# Altium schematic symbol library Electronic_Load.SchLib: 25 symbols
Pins are listed as number, name and electrical type; pins without a type are passive.

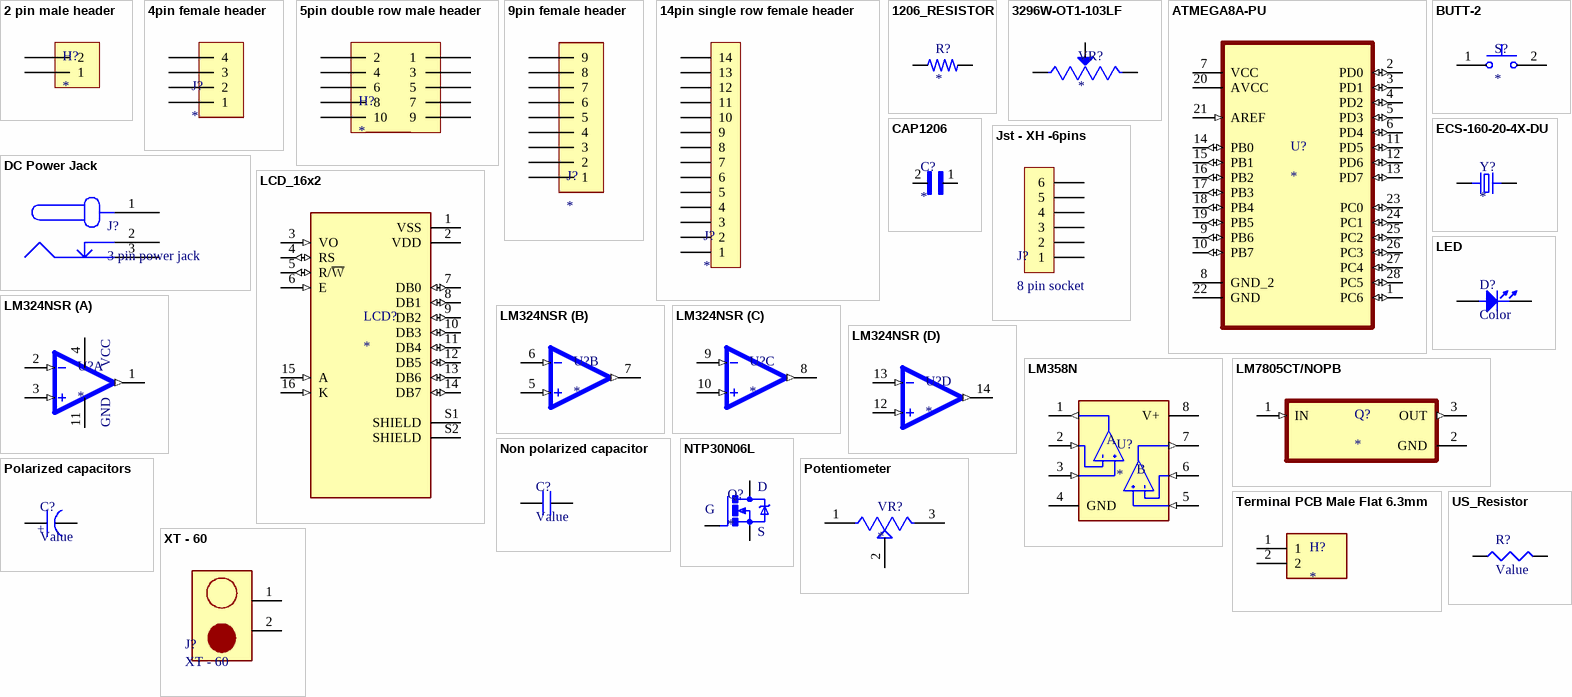
[diagram p0: symbols 2 pin male header to XT - 60]

## 2 pin male header
designator H?
footprint 2pin male header
pins: 1, 2

## 4pin female header
designator J?
footprint 4pin single row female header
pins: 1, 2, 3, 4

## 5pin double row male header
designator H?
footprint 5pin double row male header
pins: 1, 2, 3, 4, 5, 6, 7, 8, 9, 10

## 9pin female header
designator J?
footprint 9pin single row female header
pins: 1, 2, 3, 4, 5, 6, 7, 8, 9

## 14pin single row female header
designator J?
14 MODII HDR SRST B/A .100CL; MP: 1-102976-4; Package: None; Price: None; Value: *; Availability: Unavailable
footprint 14pin single row female header
pins: 1, 2, 3, 4, 5, 6, 7, 8, 9, 10, 11, 12, 13, 14

## 1206_RESISTOR
designator R?
RES 0.24 OHM 1% 1/4W 1206; Resistance: 24; Power_Rating: .25 W; MF: TE Connectivity; MP: 2-1879462-9; Package: 1206; Value: *; Price: None; Availability: Unavailable; SnapEDA_Link: https://www.snapeda.com/parts/2-1879462-9/TE%20Connectivity/view-part/2213899/?ref=snap; EU_RoHS_Compliance: Compliant with Exemptions; Tolerance: 1%
footprint resistor_through hole
pins: 1, 2

## 3296W-OT1-103LF
designator VR?
Trimmer Resistors - Through Hole 3/8 SQ CERMET 10K SEALED TRIM POT; MF: Bourns; MP: 3296W-OT1-103LF; SnapEDA_Link: https://www.snapeda.com/parts/3296W-OT1-103LF/Bourns/view-part/?ref=snap; Package: None; Value: *; Check_prices: https://www.snapeda.com/parts/3296W-OT1-103LF/Bourns/view-part/?ref=eda
footprint TRIM_3296W-OT1-103LF
pins: 1 CCW, 2 WIPER, 3 CW

## ATMEGA8A-PU
designator U?
AVR AVRÂ® ATmega Microcontroller IC 8-Bit 16MHz 8KB (4K x 16) FLASH 28-PDIP; MP: ATMEGA8A-PU; MF: Microchip; Check_prices: https://www.snapeda.com/parts/ATMEGA8A-PU/Microchip/view-part/?ref=eda; Value: *; Availability: Unavailable; Price: None; Package: PDIP-28; SnapEDA_Link: https://www.snapeda.com/parts/ATMEGA8A-PU/Microchip/view-part/?ref=snap
footprint ATMEGA8A-PU
pins: 1 PC6 (io), 2 PD0 (io), 3 PD1 (io), 4 PD2 (io), 5 PD3 (io), 6 PD4 (io), 7 VCC (power), 8 GND_2, 9 PB6 (io), 10 PB7 (io), 11 PD5 (io), 12 PD6 (io), 13 PD7 (io), 14 PB0 (io), 15 PB1 (io), 16 PB2 (io), 17 PB3 (io), 18 PB4 (io), 19 PB5 (io), 20 AVCC (power), 21 AREF (in), 22 GND, 23 PC0 (io), 24 PC1 (io), 25 PC2 (io), 26 PC3 (io), 27 PC4 (io), 28 PC5 (io)

## BUTT-2
designator S?
Tactile Switches MINI PUSH BUTTON SWITCH 2-PIN QTY. 4; MF: Gravitech; MP: BUTT-2; Purchase-URL: https://pricing.snapeda.com/search/part/BUTT-2/?ref=eda; Package: None; Value: *; Check_prices: https://www.snapeda.com/parts/BUTT-2/Gravitech/view-part/?ref=eda; SnapEDA_Link: https://www.snapeda.com/parts/BUTT-2/Gravitech/view-part/?ref=snap; Availability: In Stock; Price: None
footprint SW_BUTT-2
pins: 1, 2

## CAP1206
designator C?
ceramic cap; MP: GRM31CC80E157ME11K; MF: Murata; Price: None; Availability: In Stock; Package: 1206 Murata; Value: *; SnapEDA_Link: https://www.snapeda.com/parts/GRM31CC80E157ME11K/Murata/view-part/?ref=snap; Purchase-URL: https://pricing.snapeda.com/search/part/GRM31CC80E157ME11K/?ref=eda; Check_prices: https://www.snapeda.com/parts/GRM31CC80E157ME11K/Murata/view-part/?ref=eda
footprint Cap_nonpolarized_2.5mm
pins: 1, 2

## DC Power Jack
designator J?, comment 3 pin power jack
DC Power Jack / generic 3 pins connector
footprint DC_POWER_JACK_2.7MM
pins: 1, 2, 3

## ECS-160-20-4X-DU
designator Y?
16MHz Â±30ppm Crystal 20pF 40 Ohms HC-49/US; MP: ECS-160-20-4X-DU; MF: ECS Inc.; Digi-Key_Part_Number: XC1925-ND; Digi-Key_Purchase_URL: https://www.digikey.com/product-detail/en/ecs-inc/ECS-160-20-4X-DU/XC1925-ND/2781930?utm_source=snapeda&utm_medium=aggregator&utm_campaign=symbol; Package: HC-49/US ECS International; Value: *; SnapEDA_Link: https://www.snapeda.com/parts/ECS-160-20-4X-DU/ECS%20Inc./view-part/2154532/?ref=snap
footprint XTAL_ECS-160-20-4X-DU
pins: 1, 2

## Jst - XH -6pins
designator J?, comment 8 pin socket
footprint Jst - XH - 6pins
pins: 1, 2, 3, 4, 5, 6

## LCD_16x2
designator LCD?
Display: LCD; alphanumeric; STN Negative; 16x2; blue; LED; PIN: 16; MF: Raystar; MP: RC1602B-BIW-CSV; Value: *; SnapEDA_Link: https://www.snapeda.com/parts/RC1602B-BIW-CSV/Raystar/view-part/?ref=snap; Availability: Not in stock; Price: None; Package: None; Check_prices: https://www.snapeda.com/parts/RC1602B-BIW-CSV/Raystar/view-part/?ref=eda
footprint LCD_16x2
pins: 1 VSS (power), 2 VDD (power), 3 VO (in), 4 RS (io), 5 R/~{W} (io), 6 E (in), 7 DB0 (io), 8 DB1 (io), 9 DB2 (io), 10 DB3 (io), 11 DB4 (io), 12 DB5 (io), 13 DB6 (io), 14 DB7 (io), 15 A (in), 16 K (in), S1 SHIELD, S2 SHIELD

## LED
designator D?, comment Color
footprint LED_TH_2.54mm
pins: 1 Positive, 2 Negative

## LM324NSR
designator U?
4-Channel industry standard operational amplifier 14-SO 0 to 70; MP: LM324NSR; MF: Texas Instruments; SnapEDA_Link: https://www.snapeda.com/parts/LM324NSR/Texas%20Instruments/view-part/1807/?ref=snap; Availability: Warning; Package: SOP-14 Texas Instruments; Price: None; Check_prices: https://www.snapeda.com/parts/LM324NSR/Texas%20Instruments/view-part/1807/?ref=eda; Value: *; Purchase-URL: https://pricing.snapeda.com/search/part/LM324NSR/?ref=eda
footprint DIP794W45P254L1969H508Q14
part A pins: 1 1OUT (out), 2 1IN- (in), 3 1IN+ (in), 4 VCC (power), 11 GND (power)
part B pins: 5 2IN+ (in), 6 2IN- (in), 7 2OUT (out)
part C pins: 8 3OUT (out), 9 3IN- (in), 10 3IN+ (in)
part D pins: 12 4IN+ (in), 13 4IN- (in), 14 4OUT (out)

## LM358N
designator U?
Dual, 32-V, 1-MHz op amp; MF: Texas Instruments; MP: LM358N/NOPB; SnapEDA_Link: https://www.snapeda.com/parts/LM358N/NOPB/Texas+Instruments/view-part/?ref=snap; Package: PDIP-8 Texas; Value: *; Check_prices: https://www.snapeda.com/parts/LM358N/NOPB/Texas+Instruments/view-part/?ref=eda
footprint LM358N
pins: 1 OUTA (out), 2 -INA (in), 3 +INA (in), 4 GND (power), 5 +INB (in), 6 -INB (in), 7 OUTB (out), 8 V+ (power)
text: A; B

## LM7805CT/NOPB
designator Q?
MP: LM7805CT/NOPB; Price: None; Availability: Unavailable; Value: *; Package: None
footprint TO254P1054X470X1955-3
pins: 1 IN (in), 2 GND (power), 3 OUT (out)

## Non polarized capacitor
designator C?, comment Value
Generial Non polarized capacitor for through hole or SMD capacitors
footprint Cap_nonpolarized_2.5mm
pins: 1, 2

## NTP30N06L
designator Q?
N-Channel 100 V 9.2A (Tc) 3.7W (Ta), 60W (Tc) Surface Mount D2PAK; MP: IRF520; MF: Vishay Siliconix; Check_prices: https://www.snapeda.com/parts/IRF520/Vishay+Siliconix/view-part/?ref=eda; Value: *; Availability: In Stock; Price: None; Package: TO-220-3 Vishay; SnapEDA_Link: https://www.snapeda.com/parts/IRF520/Vishay+Siliconix/view-part/?ref=snap; Purchase-URL: https://pricing.snapeda.com/search/part/IRF520/?ref=eda
footprint NTP30N06L
pins: 1 G, 2 D, 3 S

## Polarized capacitors
designator C?, comment Value
Generial polarized capacitor for through hole or SMD capacitors
footprint CP_Radial_D4.0mm_P1.50mm
pins: 1 Positive, 2 Negative
text: +

## Potentiometer
designator VR?
Through Hole Trimmer Potentiometer Cermet 1 Turn Top Adjustment; MP: 3362P-1-503LF; Price: None; Availability: Unavailable
footprint Potentiometer
pins: 1 CW, 2 WIPER, 3 CCW

## Terminal PCB Male Flat 6.3mm
designator H?
PCR250 - Valcon PCB Mount Spade Terminal, 12.1mm PCB Profile; Package: None; Value: *; MP: PCR250; Availability: Unavailable; Price: None
footprint Terminal PCB Male Flat 6.3mm
pins: 1, 2

## US_Resistor
designator R?, comment Value
Generial resistor for through hole or SMD resistors
footprint 2W_resistor_through hole
pins: 1, 2

## XT - 60
designator J?
footprint XT-60
pins: 1 +, 2 -